# Altium footprint library Modbus.PcbLib: 19 footprints (part 2 of 2)
Each footprint in its own frame and in the unit in brackets; x right, y up, seen from the top. Pads: shape width x height; smd on the part's side, far side on the other; paste and mask are expansions set on the pad; w line width, h text height; cw(c..) or ccw(c..) is an arc to the next point about the centre after c.
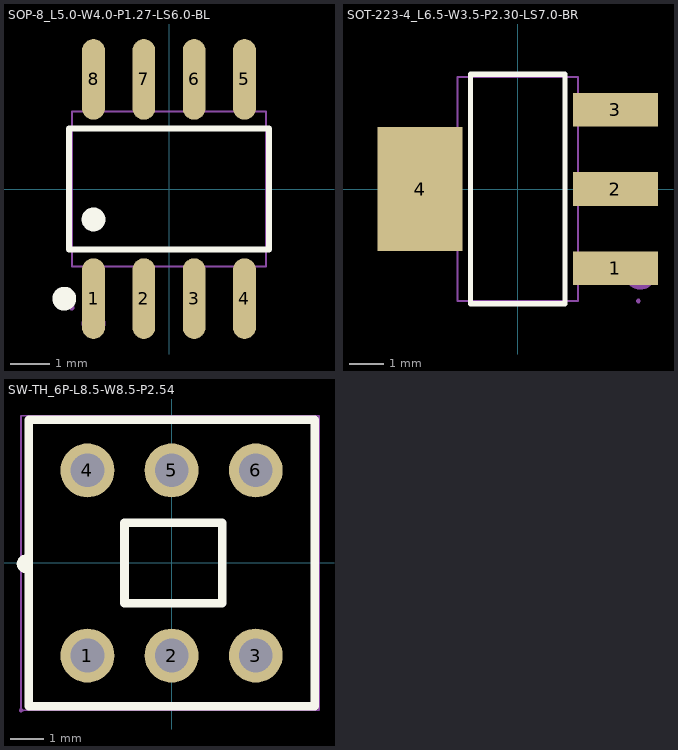
[diagram p1: the footprints below, top view; thin cyan lines are the x and y axes]

## SOP-8_L5.0-W4.0-P1.27-LS6.0-BL [mm] "EEPROM"
pads (8):
  oval 0.574x2.036 smd mask+0.051: 1(-1.905,-2.768) 2(-0.635,-2.768) 3(0.635,-2.768) 4(1.905,-2.768) 5(1.905,2.768) 6(0.635,2.768) 7(-0.635,2.768) 8(-1.905,2.768)
Top Overlay:
  circle w0.3: c-1.905,-0.769 r0.15
  circle w0.3: c-2.644,-2.768 r0.15
  lines w0.152: -2.526,-1.521 -2.526,1.521 2.526,1.521 2.526,-1.521 -2.526,-1.521
Mechanical 6:
  circle w0.3: c-1.905,-3.398 r0.15
Mechanical 15:
  region: -2.39,-2.998 -2.39,-2.973 -2.425,-2.938 -2.475,-2.938 -2.51,-2.973 -2.51,-2.998 -2.51,-3.022 -2.475,-3.057 -2.425,-3.057 -2.39,-3.022
  region: -2.11,-2.998 -2.11,-2.163 -1.7,-2.163 -1.7,-2.998
  region: -2.11,-2.172 -2.11,-1.94 -1.7,-1.94 -1.7,-2.172
  region: -0.84,-2.998 -0.84,-2.163 -0.43,-2.163 -0.43,-2.998
  region: -0.84,-2.172 -0.84,-1.94 -0.43,-1.94 -0.43,-2.172
  region: 0.43,-2.998 0.43,-2.163 0.84,-2.163 0.84,-2.998
  region: 0.43,-2.172 0.43,-1.94 0.84,-1.94 0.84,-2.172
  region: 1.7,-2.998 1.7,-2.163 2.11,-2.163 2.11,-2.998
  region: 1.7,-2.172 1.7,-1.94 2.11,-1.94 2.11,-2.172
  region: -2.11,2.998 -2.11,2.163 -1.7,2.163 -1.7,2.998
  region: -2.11,2.172 -2.11,1.94 -1.7,1.94 -1.7,2.172
  region: -0.84,2.998 -0.84,2.163 -0.43,2.163 -0.43,2.998
  region: -0.84,2.172 -0.84,1.94 -0.43,1.94 -0.43,2.172
  region: 0.43,2.998 0.43,2.163 0.84,2.163 0.84,2.998
  region: 0.43,2.172 0.43,1.94 0.84,1.94 0.84,2.172
  region: 1.7,2.998 1.7,2.163 2.11,2.163 2.11,2.998
  region: 1.7,2.172 1.7,1.94 2.11,1.94 2.11,2.172
  lines w0.051: -2.45,-1.95 -2.45,1.95 2.45,1.95 2.45,-1.95 -2.45,-1.95

## SOT-223-4_L6.5-W3.5-P2.30-LS7.0-BR [mm] "降压芯片"
pads (4):
  rect 2.47x0.98 smd mask+0.051: 1(2.835,-2.3) 2(2.835,0) 3(2.835,2.3)
  rect 2.47x3.6 smd mask+0.051: 4(-2.835,0)
Top Overlay:
  lines w0.152: -1.371,-3.326 1.371,-3.326 1.371,3.326 -1.371,3.326 -1.371,-3.326
Mechanical 6:
  circle w0.5: c3.556,-2.413 r0.25
Mechanical 15:
  region: -2.56,-1.5 -2.56,1.5 -1.74,1.5 -1.74,-1.5
  region: -2.55,-1.5 -2.55,1.5 -3.5,1.5 -3.5,-1.5
  region: 1.74,1.95 1.74,2.65 2.56,2.65 2.56,1.95
  region: 2.55,1.95 2.55,2.65 3.5,2.65 3.5,1.95
  region: 1.74,-0.35 1.74,0.35 2.56,0.35 2.56,-0.35
  region: 2.55,-0.35 2.55,0.35 3.5,0.35 3.5,-0.35
  region: 1.74,-2.65 1.74,-1.95 2.56,-1.95 2.56,-2.65
  region: 2.55,-2.65 2.55,-1.95 3.5,-1.95 3.5,-2.65
  region: 3.56,-3.25 3.56,-3.225 3.525,-3.19 3.475,-3.19 3.44,-3.225 3.44,-3.25 3.44,-3.275 3.475,-3.31 3.525,-3.31 3.56,-3.275
  lines w0.051: -1.75,-3.25 1.75,-3.25 1.75,3.25 -1.75,3.25 -1.75,-3.25

## SW-TH_6P-L8.5-W8.5-P2.54 [mm] "自锁开关"
pads (6):
  round 1.6 hole 1 mask+0.051: 1(-2.5,-2.75) 2(0,-2.75) 3(2.5,-2.75) 4(-2.5,2.75) 5(0,2.75) 6(2.5,2.75)
Top Overlay:
  lines w0.254: -4.325,-0.174 cw(c-4.323,-0.024) -4.325,0.126 ; -4.25,-4.25 -4.25,4.25 4.25,4.25 4.25,-4.25 -4.25,-4.25 ; -1.4,-1.2 -1.4,1.2 1.5,1.2 1.5,-1.2 -1.4,-1.2
Mechanical 15:
  region: -2.1,-2.75 -2.1,-2.671 -2.161,-2.524 -2.273,-2.411 -2.42,-2.35 -2.58,-2.35 -2.727,-2.411 -2.839,-2.524 -2.9,-2.671 -2.9,-2.75 -2.9,-2.83 -2.839,-2.977 -2.727,-3.089 -2.58,-3.15 -2.42,-3.15 -2.273,-3.089 -2.161,-2.977 -2.1,-2.83
  region: 0.4,-2.75 0.4,-2.671 0.339,-2.524 0.226,-2.411 0.079,-2.35 -0.08,-2.35 -0.227,-2.411 -0.339,-2.524 -0.4,-2.671 -0.4,-2.75 -0.4,-2.83 -0.339,-2.977 -0.227,-3.089 -0.08,-3.15 0.079,-3.15 0.226,-3.089 0.339,-2.977 0.4,-2.83
  region: 2.9,-2.75 2.9,-2.671 2.839,-2.524 2.727,-2.411 2.58,-2.35 2.42,-2.35 2.273,-2.411 2.161,-2.524 2.1,-2.671 2.1,-2.75 2.1,-2.83 2.161,-2.977 2.273,-3.089 2.42,-3.15 2.58,-3.15 2.727,-3.089 2.839,-2.977 2.9,-2.83
  region: 2.9,2.75 2.9,2.83 2.839,2.977 2.727,3.089 2.58,3.15 2.42,3.15 2.273,3.089 2.161,2.977 2.1,2.83 2.1,2.75 2.1,2.671 2.161,2.524 2.273,2.411 2.42,2.35 2.58,2.35 2.727,2.411 2.839,2.524 2.9,2.671
  region: 0.4,2.75 0.4,2.83 0.339,2.977 0.226,3.089 0.079,3.15 -0.08,3.15 -0.227,3.089 -0.339,2.977 -0.4,2.83 -0.4,2.75 -0.4,2.671 -0.339,2.524 -0.227,2.411 -0.08,2.35 0.079,2.35 0.226,2.411 0.339,2.524 0.4,2.671
  region: -2.1,2.75 -2.1,2.83 -2.161,2.977 -2.273,3.089 -2.42,3.15 -2.58,3.15 -2.727,3.089 -2.839,2.977 -2.9,2.83 -2.9,2.75 -2.9,2.671 -2.839,2.524 -2.727,2.411 -2.58,2.35 -2.42,2.35 -2.273,2.411 -2.161,2.524 -2.1,2.671
  region: -4.413,-4.377 -4.413,-4.352 -4.448,-4.317 -4.498,-4.317 -4.533,-4.352 -4.533,-4.377 -4.533,-4.402 -4.498,-4.437 -4.448,-4.437 -4.413,-4.402
  lines w0.051: -4.473,-4.377 -4.473,4.377 4.377,4.377 4.377,-4.377 -4.473,-4.377